# Altium integrated library Renesas Microcontroller H8.IntLib: 489 symbols (part 25 of 25)
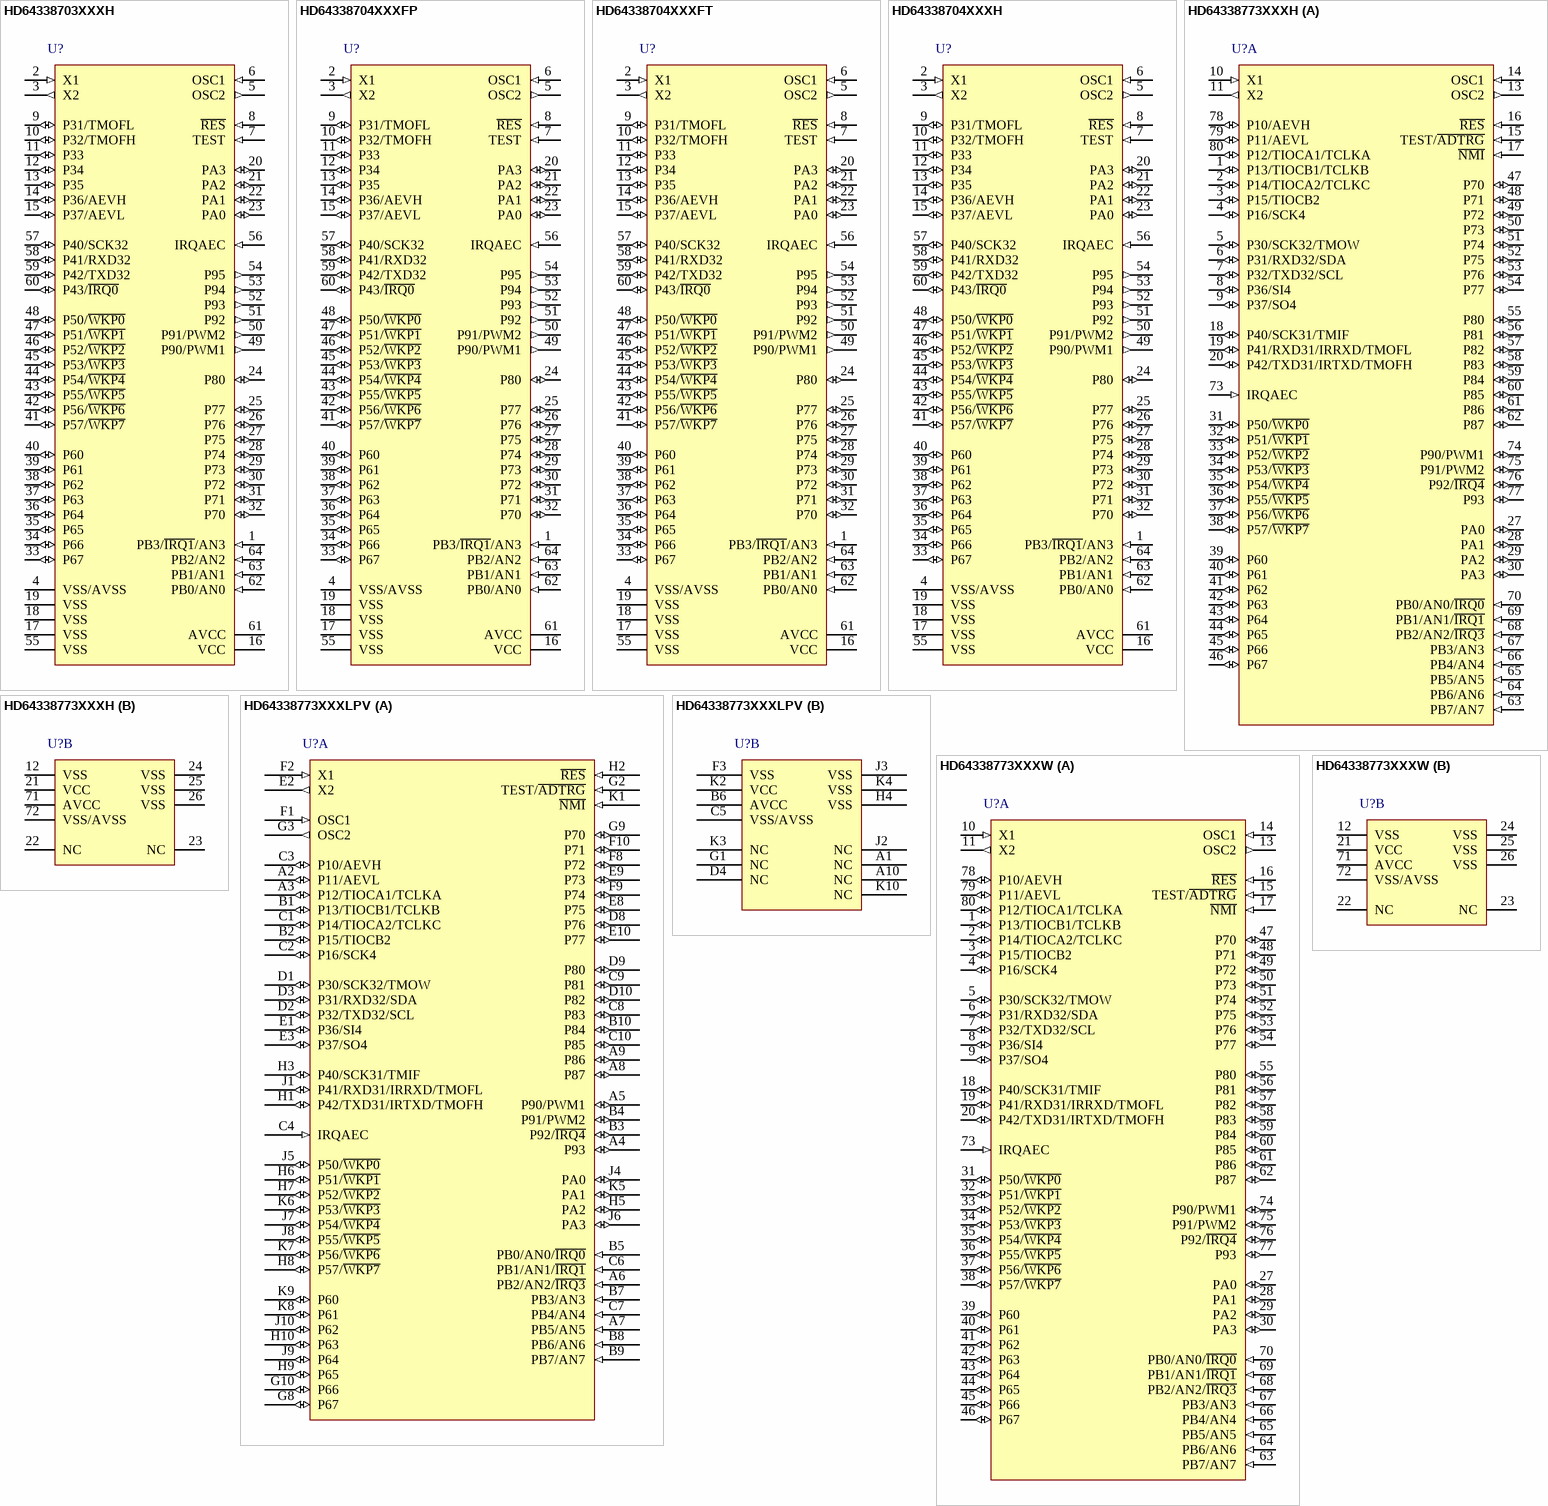
[diagram p112: symbols HD64338703XXXH to HD64338773XXXW]

## HD64338704XXXH
designator U?
H8 Family 8-bit MCU, H8/300H Super Low Power, 32K ROM, 1K RAM, 2MHz, 1.8 to 3.6V, 64-Pin QFP; Published: 28-Aug-2009; DatasheetVersion: Rev.1.00, Dec-2007; PackageVersion: Sep-2005; PackageReference: PRQP0064GB-A; Publisher: Altium Limited; PackageDescription: 64-Pin Plastic Quad Flat Pack, 14 x 14 x 2.7 mm Body, 0.8 mm Pitch; Code_JEITA: P-QFP64-14x14-0.80; ComponentLink1Description: Manufacturer Link; ComponentLink1URL: http://sg.renesas.com/fmwk.jsp?cnt=h8_family_landing.jsp&fp=/products/mpumcu/h8_family/; ComponentLink2Description: Datasheet; ComponentLink2URL: http://documentation.renesas.com/eng/products/mpumcu/rej09b0430_h838704hm.pdf; ComponentLink3Description: Packaging Specification; ComponentLink3URL: http://sg.renesas.com/media/products/common_info/package/pdf/ic/code/prqp0064gb_a.pdf
footprint PRQP0064GB-A_N (QFP, 64-Leads, Body 14x14mm, Pitch 0.8mm, IPC Medium Density)
footprint PRQP0064GB-A_L (QFP, 64-Leads, Body 14x14mm, Pitch 0.8mm, IPC High Density)
footprint PRQP0064GB-A_M (QFP, 64-Leads, Body 14x14mm, Pitch 0.8mm, IPC Low Density)
pins: 1 PB3/~{IRQ1}/AN3 (in), 2 X1 (in), 3 X2 (out), 4 VSS/AVSS (power), 5 OSC2 (out), 6 OSC1 (in), 7 TEST (in), 8 ~{RES} (in), 9 P31/TMOFL (io), 10 P32/TMOFH (io), 11 P33 (io), 12 P34 (io), 13 P35 (io), 14 P36/AEVH (io), 15 P37/AEVL (io), 16 VCC (power), 17 VSS (power), 18 VSS (power), 19 VSS (power), 20 PA3 (io), 21 PA2 (io), 22 PA1 (io), 23 PA0 (io), 24 P80 (io), 25 P77 (io), 26 P76 (io), 27 P75 (io), 28 P74 (io), 29 P73 (io), 30 P72 (io), 31 P71 (io), 32 P70 (io), 33 P67 (io), 34 P66 (io), 35 P65 (io), 36 P64 (io), 37 P63 (io), 38 P62 (io), 39 P61 (io), 40 P60 (io), 41 P57/~{WKP7} (io), 42 P56/~{WKP6} (io), 43 P55/~{WKP5} (io), 44 P54/~{WKP4} (io), 45 P53/~{WKP3} (io), 46 P52/~{WKP2} (io), 47 P51/~{WKP1} (io), 48 P50/~{WKP0} (io), 49 P90/PWM1 (out), 50 P91/PWM2 (out), 51 P92 (out), 52 P93 (out), 53 P94 (out), 54 P95 (out), 55 VSS (power), 56 IRQAEC (in), 57 P40/SCK32 (io), 58 P41/RXD32 (io), 59 P42/TXD32 (io), 60 P43/~{IRQ0} (io), 61 AVCC (power), 62 PB0/AN0 (in), 63 PB1/AN1 (in), 64 PB2/AN2 (in)

## HD64338773XXXH
designator U?
H8 Family 32/16-bit CISC, H8/300H Super Low Power, 24K ROM, 1K RAM, 4.2MHz, 1.8 to 3.6V, 80-Pin QFP; Published: 28-Aug-2009; DatasheetVersion: Rev.1.00, Dec-2006; PackageVersion: Sep-2005; PackageReference: PRQP0080JB-A; Publisher: Altium Limited; PackageDescription: 80-Pin Plastic Quad Flat Pack, 14 x 14 x 2.7 mm Body, 0.65 mm Pitch; Code_JEITA: P-QFP80-14x14-0.65; Code_IPC: QFP65P1720X1720-80; ComponentLink1Description: Manufacturer Link; ComponentLink1URL: http://sg.renesas.com/fmwk.jsp?cnt=h8_family_landing.jsp&fp=/products/mpumcu/h8_family/; ComponentLink2Description: Datasheet; ComponentLink2URL: http://documentation.renesas.com/eng/products/mpumcu/rej09b0348_h838776hm.pdf; ComponentLink3Description: Packaging Specification; ComponentLink3URL: http://sg.renesas.com/media/products/common_info/package/pdf/ic/code/prqp0080jb_a.pdf
footprint PRQP0080JB-A_N (QFP, 80-Leads, Body 14x14mm, Pitch 0.65mm, IPC Medium Density)
footprint PRQP0080JB-A_L (QFP, 80-Leads, Body 14x14mm, Pitch 0.65mm, IPC High Density)
footprint PRQP0080JB-A_M (QFP, 80-Leads, Body 14x14mm, Pitch 0.65mm, IPC Low Density)
part A pins: 1 P13/TIOCB1/TCLKB (io), 2 P14/TIOCA2/TCLKC (io), 3 P15/TIOCB2 (io), 4 P16/SCK4 (io), 5 P30/SCK32/TMOW (io), 6 P31/RXD32/SDA (io), 7 P32/TXD32/SCL (io), 8 P36/SI4 (io), 9 P37/SO4 (io), 10 X1 (in), 11 X2 (out), 13 OSC2 (out), 14 OSC1 (in), 15 TEST/~{ADTRG} (in), 16 ~{RES} (in), 17 ~{NMI} (in), 18 P40/SCK31/TMIF (io), 19 P41/RXD31/IRRXD/TMOFL (io), 20 P42/TXD31/IRTXD/TMOFH (io), 27 PA0 (io), 28 PA1 (io), 29 PA2 (io), 30 PA3 (io), 31 P50/~{WKP0} (io), 32 P51/~{WKP1} (io), 33 P52/~{WKP2} (io), 34 P53/~{WKP3} (io), 35 P54/~{WKP4} (io), 36 P55/~{WKP5} (io), 37 P56/~{WKP6} (io), 38 P57/~{WKP7} (io), 39 P60 (io), 40 P61 (io), 41 P62 (io), 42 P63 (io), 43 P64 (io), 44 P65 (io), 45 P66 (io), 46 P67 (io), 47 P70 (io), 48 P71 (io), 49 P72 (io), 50 P73 (io), 51 P74 (io), 52 P75 (io), 53 P76 (io), 54 P77 (io), 55 P80 (io), 56 P81 (io), 57 P82 (io), 58 P83 (io), 59 P84 (io), 60 P85 (io), 61 P86 (io), 62 P87 (io), 63 PB7/AN7 (in), 64 PB6/AN6 (in), 65 PB5/AN5 (in), 66 PB4/AN4 (in), 67 PB3/AN3 (in), 68 PB2/AN2/~{IRQ3} (in), 69 PB1/AN1/~{IRQ1} (in), 70 PB0/AN0/~{IRQ0} (in), 73 IRQAEC (in), 74 P90/PWM1 (io), 75 P91/PWM2 (io), 76 P92/~{IRQ4} (io), 77 P93 (io), 78 P10/AEVH (io), 79 P11/AEVL (io), 80 P12/TIOCA1/TCLKA (io)
part B pins: 12 VSS (power), 21 VCC (power), 22 NC (power), 23 NC (power), 24 VSS (power), 25 VSS (power), 26 VSS (power), 71 AVCC (power), 72 VSS/AVSS (power)

## HD64338773XXXLPV
designator U?
H8 Family 32/16-bit CISC, H8/300H Super Low Power, 24K ROM, 1K RAM, 4.2MHz, 1.8 to 3.6V, 85-Ball BGA; Published: 28-Aug-2009; DatasheetVersion: Rev.1.00, Dec-2006; PackageVersion: Sep-2005; PackageReference: PTLG0085JA-A; Publisher: Altium Limited; PackageDescription: 85-Ball Plastic Thin Fine-Pitch BGA, 7 x 7 mm Body, 0.65 mm Pitch; Code_JEITA: P-TFLGA85-7x7-0.65; ComponentLink1Description: Manufacturer Link; ComponentLink1URL: http://sg.renesas.com/fmwk.jsp?cnt=h8_family_landing.jsp&fp=/products/mpumcu/h8_family/; ComponentLink2Description: Datasheet; ComponentLink2URL: http://documentation.renesas.com/eng/products/mpumcu/rej09b0348_h838776hm.pdf; ComponentLink3Description: Packaging Specification; ComponentLink3URL: http://sg.renesas.com/media/products/common_info/package/pdf/ic/code/ptlg0085ja_a.pdf
footprint PTLG0085JA-A (BGA, 85-Leads, Body 7x7mm, Pitch 0.65mm)
part A pins: A2 P11/AEVL (io), A3 P12/TIOCA1/TCLKA (io), A4 P93 (io), A5 P90/PWM1 (io), A6 PB2/AN2/~{IRQ3} (in), A7 PB5/AN5 (in), A8 P87 (io), A9 P86 (io), B1 P13/TIOCB1/TCLKB (io), B2 P15/TIOCB2 (io), B3 P92/~{IRQ4} (io), B4 P91/PWM2 (io), B5 PB0/AN0/~{IRQ0} (in), B7 PB3/AN3 (in), B8 PB6/AN6 (in), B9 PB7/AN7 (in), B10 P84 (io), C1 P14/TIOCA2/TCLKC (io), C2 P16/SCK4 (io), C3 P10/AEVH (io), C4 IRQAEC (in), C6 PB1/AN1/~{IRQ1} (in), C7 PB4/AN4 (in), C8 P83 (io), C9 P81 (io), C10 P85 (io), D1 P30/SCK32/TMOW (io), D2 P32/TXD32/SCL (io), D3 P31/RXD32/SDA (io), D8 P76 (io), D9 P80 (io), D10 P82 (io), E1 P36/SI4 (io), E2 X2 (out), E3 P37/SO4 (io), E8 P75 (io), E9 P73 (io), E10 P77 (io), F1 OSC1 (in), F2 X1 (in), F8 P72 (io), F9 P74 (io), F10 P71 (io), G2 TEST/~{ADTRG} (in), G3 OSC2 (out), G8 P67 (io), G9 P70 (io), G10 P66 (io), H1 P42/TXD31/IRTXD/TMOFH (io), H2 ~{RES} (in), H3 P40/SCK31/TMIF (io), H5 PA2 (io), H6 P51/~{WKP1} (io), H7 P52/~{WKP2} (io), H8 P57/~{WKP7} (io), H9 P65 (io), H10 P63 (io), J1 P41/RXD31/IRRXD/TMOFL (io), J4 PA0 (io), J5 P50/~{WKP0} (io), J6 PA3 (io), J7 P54/~{WKP4} (io), J8 P55/~{WKP5} (io), J9 P64 (io), J10 P62 (io), K1 ~{NMI} (in), K5 PA1 (io), K6 P53/~{WKP3} (io), K7 P56/~{WKP6} (io), K8 P61 (io), K9 P60 (io)
part B pins: A1 NC, A10 NC, B6 AVCC (power), C5 VSS/AVSS (power), D4 NC, F3 VSS (power), G1 NC, H4 VSS (power), J2 NC (power), J3 VSS (power), K2 VCC (power), K3 NC (power), K4 VSS (power), K10 NC

## HD64338773XXXW
designator U?
H8 Family 32/16-bit CISC, H8/300H Super Low Power, 24K ROM, 1K RAM, 4.2MHz, 1.8 to 3.6V, 80-Pin QFP; Published: 28-Aug-2009; DatasheetVersion: Rev.1.00, Dec-2006; PackageVersion: Sep-2005; PackageReference: PTQP0080KC-A; Publisher: Altium Limited; PackageDescription: 80-Pin Plastic Thin Quad Flat Pack, 12 x 12 x 1.0 mm Body, 0.5 mm Pitch; Code_JEITA: P-TQFP80-12x12-0.50; ComponentLink1Description: Manufacturer Link; ComponentLink1URL: http://sg.renesas.com/fmwk.jsp?cnt=h8_family_landing.jsp&fp=/products/mpumcu/h8_family/; ComponentLink2Description: Datasheet; ComponentLink2URL: http://documentation.renesas.com/eng/products/mpumcu/rej09b0348_h838776hm.pdf; ComponentLink3Description: Packaging Specification; ComponentLink3URL: http://sg.renesas.com/media/products/common_info/package/pdf/ic/code/ptqp0080kc_a.pdf
footprint PTQP0080KC-A_N (Thin QFP, 80-Leads, Body 12x12mm, Pitch 0.5mm, IPC Medium Density)
footprint PTQP0080KC-A_L (Thin QFP, 80-Leads, Body 12x12mm, Pitch 0.5mm, IPC High Density)
footprint PTQP0080KC-A_M (Thin QFP, 80-Leads, Body 12x12mm, Pitch 0.5mm, IPC Low Density)
part A pins: 1 P13/TIOCB1/TCLKB (io), 2 P14/TIOCA2/TCLKC (io), 3 P15/TIOCB2 (io), 4 P16/SCK4 (io), 5 P30/SCK32/TMOW (io), 6 P31/RXD32/SDA (io), 7 P32/TXD32/SCL (io), 8 P36/SI4 (io), 9 P37/SO4 (io), 10 X1 (in), 11 X2 (out), 13 OSC2 (out), 14 OSC1 (in), 15 TEST/~{ADTRG} (in), 16 ~{RES} (in), 17 ~{NMI} (in), 18 P40/SCK31/TMIF (io), 19 P41/RXD31/IRRXD/TMOFL (io), 20 P42/TXD31/IRTXD/TMOFH (io), 27 PA0 (io), 28 PA1 (io), 29 PA2 (io), 30 PA3 (io), 31 P50/~{WKP0} (io), 32 P51/~{WKP1} (io), 33 P52/~{WKP2} (io), 34 P53/~{WKP3} (io), 35 P54/~{WKP4} (io), 36 P55/~{WKP5} (io), 37 P56/~{WKP6} (io), 38 P57/~{WKP7} (io), 39 P60 (io), 40 P61 (io), 41 P62 (io), 42 P63 (io), 43 P64 (io), 44 P65 (io), 45 P66 (io), 46 P67 (io), 47 P70 (io), 48 P71 (io), 49 P72 (io), 50 P73 (io), 51 P74 (io), 52 P75 (io), 53 P76 (io), 54 P77 (io), 55 P80 (io), 56 P81 (io), 57 P82 (io), 58 P83 (io), 59 P84 (io), 60 P85 (io), 61 P86 (io), 62 P87 (io), 63 PB7/AN7 (in), 64 PB6/AN6 (in), 65 PB5/AN5 (in), 66 PB4/AN4 (in), 67 PB3/AN3 (in), 68 PB2/AN2/~{IRQ3} (in), 69 PB1/AN1/~{IRQ1} (in), 70 PB0/AN0/~{IRQ0} (in), 73 IRQAEC (in), 74 P90/PWM1 (io), 75 P91/PWM2 (io), 76 P92/~{IRQ4} (io), 77 P93 (io), 78 P10/AEVH (io), 79 P11/AEVL (io), 80 P12/TIOCA1/TCLKA (io)
part B pins: 12 VSS (power), 21 VCC (power), 22 NC (power), 23 NC (power), 24 VSS (power), 25 VSS (power), 26 VSS (power), 71 AVCC (power), 72 VSS/AVSS (power)

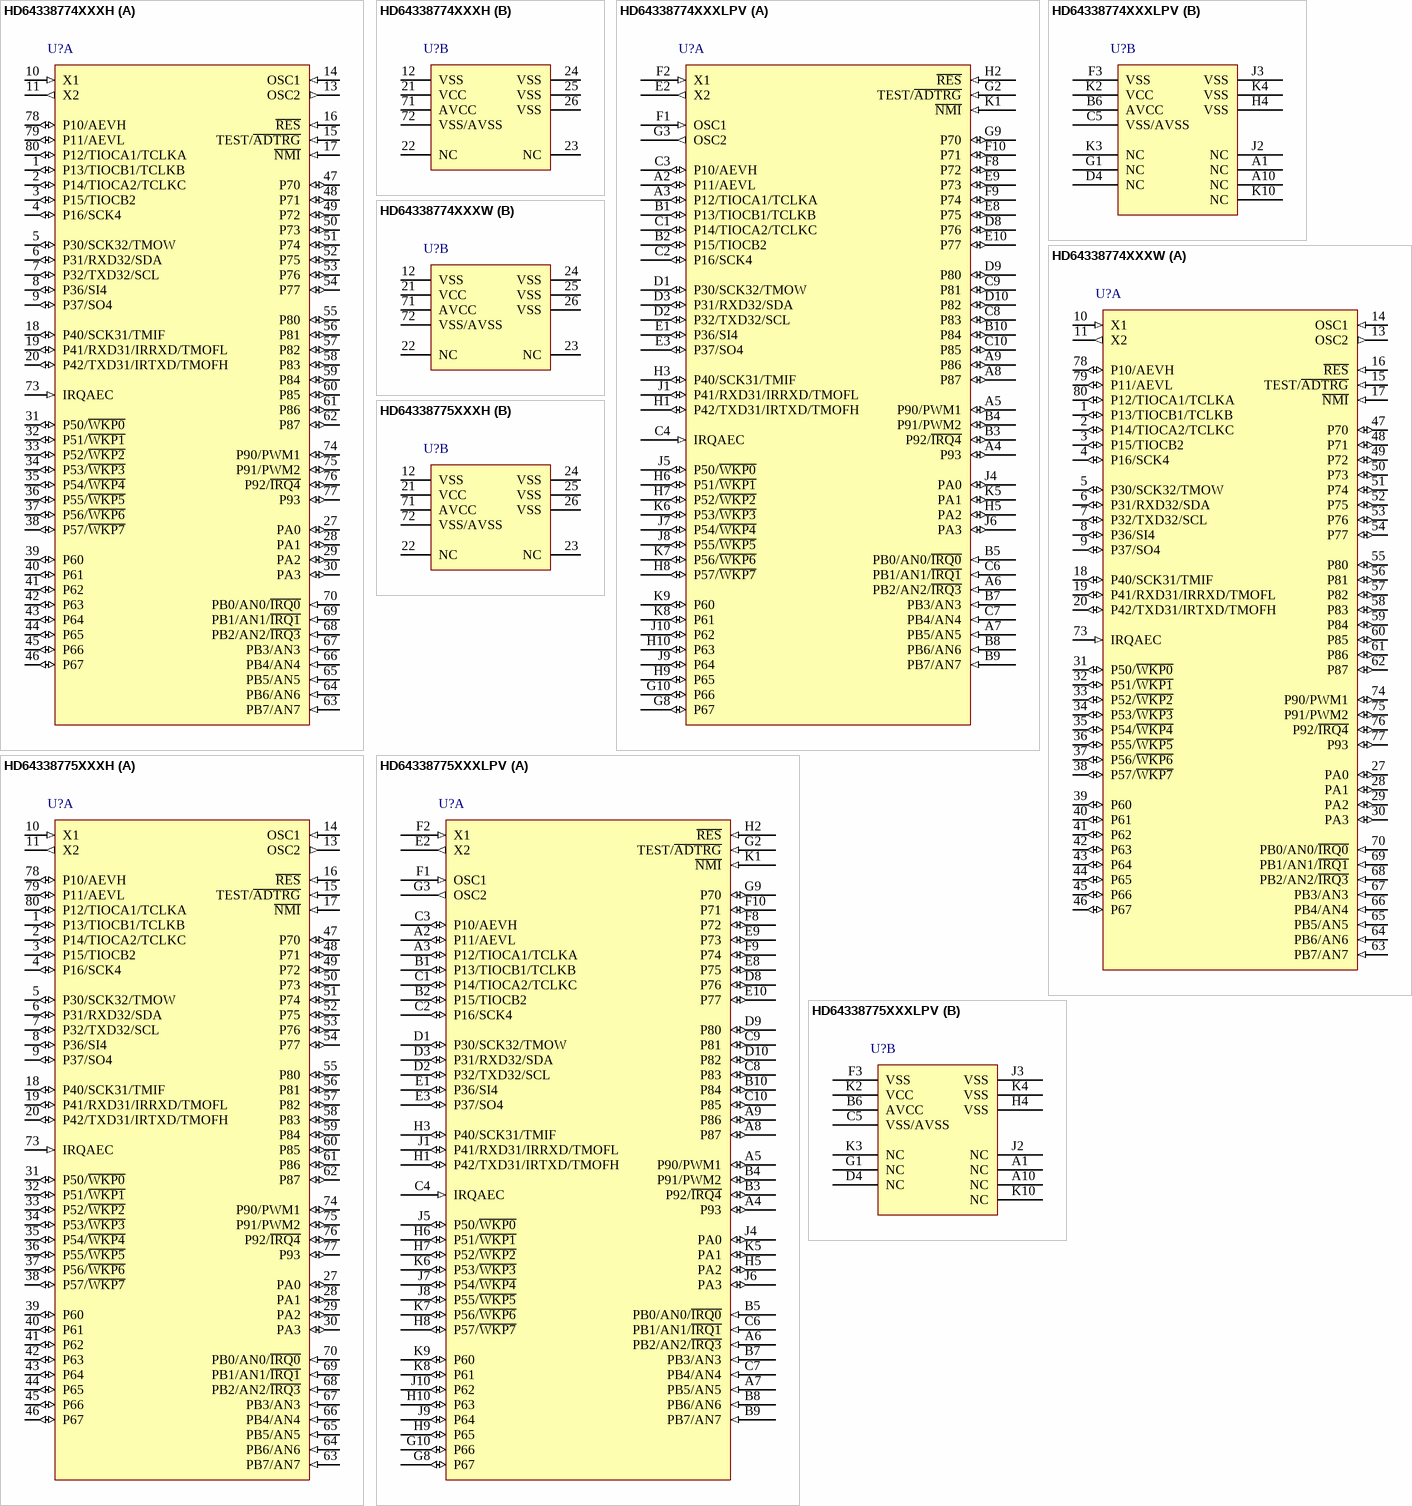
[diagram p86: symbols HD64338774XXXH to HD64338775XXXLPV]

## HD64338774XXXH
designator U?
H8 Family 32/16-bit CISC, H8/300H Super Low Power, 32K ROM, 1K RAM, 4.2MHz, 1.8 to 3.6V, 80-Pin QFP; Published: 28-Aug-2009; DatasheetVersion: Rev.1.00, Dec-2006; PackageVersion: Sep-2005; PackageReference: PRQP0080JB-A; Publisher: Altium Limited; PackageDescription: 80-Pin Plastic Quad Flat Pack, 14 x 14 x 2.7 mm Body, 0.65 mm Pitch; Code_JEITA: P-QFP80-14x14-0.65; Code_IPC: QFP65P1720X1720-80; ComponentLink1Description: Manufacturer Link; ComponentLink1URL: http://sg.renesas.com/fmwk.jsp?cnt=h8_family_landing.jsp&fp=/products/mpumcu/h8_family/; ComponentLink2Description: Datasheet; ComponentLink2URL: http://documentation.renesas.com/eng/products/mpumcu/rej09b0348_h838776hm.pdf; ComponentLink3Description: Packaging Specification; ComponentLink3URL: http://sg.renesas.com/media/products/common_info/package/pdf/ic/code/prqp0080jb_a.pdf
footprint PRQP0080JB-A_N (QFP, 80-Leads, Body 14x14mm, Pitch 0.65mm, IPC Medium Density)
footprint PRQP0080JB-A_L (QFP, 80-Leads, Body 14x14mm, Pitch 0.65mm, IPC High Density)
footprint PRQP0080JB-A_M (QFP, 80-Leads, Body 14x14mm, Pitch 0.65mm, IPC Low Density)
part A pins: 1 P13/TIOCB1/TCLKB (io), 2 P14/TIOCA2/TCLKC (io), 3 P15/TIOCB2 (io), 4 P16/SCK4 (io), 5 P30/SCK32/TMOW (io), 6 P31/RXD32/SDA (io), 7 P32/TXD32/SCL (io), 8 P36/SI4 (io), 9 P37/SO4 (io), 10 X1 (in), 11 X2 (out), 13 OSC2 (out), 14 OSC1 (in), 15 TEST/~{ADTRG} (in), 16 ~{RES} (in), 17 ~{NMI} (in), 18 P40/SCK31/TMIF (io), 19 P41/RXD31/IRRXD/TMOFL (io), 20 P42/TXD31/IRTXD/TMOFH (io), 27 PA0 (io), 28 PA1 (io), 29 PA2 (io), 30 PA3 (io), 31 P50/~{WKP0} (io), 32 P51/~{WKP1} (io), 33 P52/~{WKP2} (io), 34 P53/~{WKP3} (io), 35 P54/~{WKP4} (io), 36 P55/~{WKP5} (io), 37 P56/~{WKP6} (io), 38 P57/~{WKP7} (io), 39 P60 (io), 40 P61 (io), 41 P62 (io), 42 P63 (io), 43 P64 (io), 44 P65 (io), 45 P66 (io), 46 P67 (io), 47 P70 (io), 48 P71 (io), 49 P72 (io), 50 P73 (io), 51 P74 (io), 52 P75 (io), 53 P76 (io), 54 P77 (io), 55 P80 (io), 56 P81 (io), 57 P82 (io), 58 P83 (io), 59 P84 (io), 60 P85 (io), 61 P86 (io), 62 P87 (io), 63 PB7/AN7 (in), 64 PB6/AN6 (in), 65 PB5/AN5 (in), 66 PB4/AN4 (in), 67 PB3/AN3 (in), 68 PB2/AN2/~{IRQ3} (in), 69 PB1/AN1/~{IRQ1} (in), 70 PB0/AN0/~{IRQ0} (in), 73 IRQAEC (in), 74 P90/PWM1 (io), 75 P91/PWM2 (io), 76 P92/~{IRQ4} (io), 77 P93 (io), 78 P10/AEVH (io), 79 P11/AEVL (io), 80 P12/TIOCA1/TCLKA (io)
part B pins: 12 VSS (power), 21 VCC (power), 22 NC (power), 23 NC (power), 24 VSS (power), 25 VSS (power), 26 VSS (power), 71 AVCC (power), 72 VSS/AVSS (power)

## HD64338774XXXLPV
designator U?
H8 Family 32/16-bit CISC, H8/300H Super Low Power, 32K ROM, 1K RAM, 4.2MHz, 1.8 to 3.6V, 85-Ball BGA; Published: 28-Aug-2009; DatasheetVersion: Rev.1.00, Dec-2006; PackageVersion: Sep-2005; PackageReference: PTLG0085JA-A; Publisher: Altium Limited; PackageDescription: 85-Ball Plastic Thin Fine-Pitch BGA, 7 x 7 mm Body, 0.65 mm Pitch; Code_JEITA: P-TFLGA85-7x7-0.65; ComponentLink1Description: Manufacturer Link; ComponentLink1URL: http://sg.renesas.com/fmwk.jsp?cnt=h8_family_landing.jsp&fp=/products/mpumcu/h8_family/; ComponentLink2Description: Datasheet; ComponentLink2URL: http://documentation.renesas.com/eng/products/mpumcu/rej09b0348_h838776hm.pdf; ComponentLink3Description: Packaging Specification; ComponentLink3URL: http://sg.renesas.com/media/products/common_info/package/pdf/ic/code/ptlg0085ja_a.pdf
footprint PTLG0085JA-A (BGA, 85-Leads, Body 7x7mm, Pitch 0.65mm)
part A pins: A2 P11/AEVL (io), A3 P12/TIOCA1/TCLKA (io), A4 P93 (io), A5 P90/PWM1 (io), A6 PB2/AN2/~{IRQ3} (in), A7 PB5/AN5 (in), A8 P87 (io), A9 P86 (io), B1 P13/TIOCB1/TCLKB (io), B2 P15/TIOCB2 (io), B3 P92/~{IRQ4} (io), B4 P91/PWM2 (io), B5 PB0/AN0/~{IRQ0} (in), B7 PB3/AN3 (in), B8 PB6/AN6 (in), B9 PB7/AN7 (in), B10 P84 (io), C1 P14/TIOCA2/TCLKC (io), C2 P16/SCK4 (io), C3 P10/AEVH (io), C4 IRQAEC (in), C6 PB1/AN1/~{IRQ1} (in), C7 PB4/AN4 (in), C8 P83 (io), C9 P81 (io), C10 P85 (io), D1 P30/SCK32/TMOW (io), D2 P32/TXD32/SCL (io), D3 P31/RXD32/SDA (io), D8 P76 (io), D9 P80 (io), D10 P82 (io), E1 P36/SI4 (io), E2 X2 (out), E3 P37/SO4 (io), E8 P75 (io), E9 P73 (io), E10 P77 (io), F1 OSC1 (in), F2 X1 (in), F8 P72 (io), F9 P74 (io), F10 P71 (io), G2 TEST/~{ADTRG} (in), G3 OSC2 (out), G8 P67 (io), G9 P70 (io), G10 P66 (io), H1 P42/TXD31/IRTXD/TMOFH (io), H2 ~{RES} (in), H3 P40/SCK31/TMIF (io), H5 PA2 (io), H6 P51/~{WKP1} (io), H7 P52/~{WKP2} (io), H8 P57/~{WKP7} (io), H9 P65 (io), H10 P63 (io), J1 P41/RXD31/IRRXD/TMOFL (io), J4 PA0 (io), J5 P50/~{WKP0} (io), J6 PA3 (io), J7 P54/~{WKP4} (io), J8 P55/~{WKP5} (io), J9 P64 (io), J10 P62 (io), K1 ~{NMI} (in), K5 PA1 (io), K6 P53/~{WKP3} (io), K7 P56/~{WKP6} (io), K8 P61 (io), K9 P60 (io)
part B pins: A1 NC, A10 NC, B6 AVCC (power), C5 VSS/AVSS (power), D4 NC, F3 VSS (power), G1 NC, H4 VSS (power), J2 NC (power), J3 VSS (power), K2 VCC (power), K3 NC (power), K4 VSS (power), K10 NC

## HD64338774XXXW
designator U?
H8 Family 32/16-bit CISC, H8/300H Super Low Power, 32K ROM, 1K RAM, 4.2MHz, 1.8 to 3.6V, 80-Pin QFP; Published: 28-Aug-2009; DatasheetVersion: Rev.1.00, Dec-2006; PackageVersion: Sep-2005; PackageReference: PTQP0080KC-A; Publisher: Altium Limited; PackageDescription: 80-Pin Plastic Thin Quad Flat Pack, 12 x 12 x 1.0 mm Body, 0.5 mm Pitch; Code_JEITA: P-TQFP80-12x12-0.50; ComponentLink1Description: Manufacturer Link; ComponentLink1URL: http://sg.renesas.com/fmwk.jsp?cnt=h8_family_landing.jsp&fp=/products/mpumcu/h8_family/; ComponentLink2Description: Datasheet; ComponentLink2URL: http://documentation.renesas.com/eng/products/mpumcu/rej09b0348_h838776hm.pdf; ComponentLink3Description: Packaging Specification; ComponentLink3URL: http://sg.renesas.com/media/products/common_info/package/pdf/ic/code/ptqp0080kc_a.pdf
footprint PTQP0080KC-A_N (Thin QFP, 80-Leads, Body 12x12mm, Pitch 0.5mm, IPC Medium Density)
footprint PTQP0080KC-A_L (Thin QFP, 80-Leads, Body 12x12mm, Pitch 0.5mm, IPC High Density)
footprint PTQP0080KC-A_M (Thin QFP, 80-Leads, Body 12x12mm, Pitch 0.5mm, IPC Low Density)
part A pins: 1 P13/TIOCB1/TCLKB (io), 2 P14/TIOCA2/TCLKC (io), 3 P15/TIOCB2 (io), 4 P16/SCK4 (io), 5 P30/SCK32/TMOW (io), 6 P31/RXD32/SDA (io), 7 P32/TXD32/SCL (io), 8 P36/SI4 (io), 9 P37/SO4 (io), 10 X1 (in), 11 X2 (out), 13 OSC2 (out), 14 OSC1 (in), 15 TEST/~{ADTRG} (in), 16 ~{RES} (in), 17 ~{NMI} (in), 18 P40/SCK31/TMIF (io), 19 P41/RXD31/IRRXD/TMOFL (io), 20 P42/TXD31/IRTXD/TMOFH (io), 27 PA0 (io), 28 PA1 (io), 29 PA2 (io), 30 PA3 (io), 31 P50/~{WKP0} (io), 32 P51/~{WKP1} (io), 33 P52/~{WKP2} (io), 34 P53/~{WKP3} (io), 35 P54/~{WKP4} (io), 36 P55/~{WKP5} (io), 37 P56/~{WKP6} (io), 38 P57/~{WKP7} (io), 39 P60 (io), 40 P61 (io), 41 P62 (io), 42 P63 (io), 43 P64 (io), 44 P65 (io), 45 P66 (io), 46 P67 (io), 47 P70 (io), 48 P71 (io), 49 P72 (io), 50 P73 (io), 51 P74 (io), 52 P75 (io), 53 P76 (io), 54 P77 (io), 55 P80 (io), 56 P81 (io), 57 P82 (io), 58 P83 (io), 59 P84 (io), 60 P85 (io), 61 P86 (io), 62 P87 (io), 63 PB7/AN7 (in), 64 PB6/AN6 (in), 65 PB5/AN5 (in), 66 PB4/AN4 (in), 67 PB3/AN3 (in), 68 PB2/AN2/~{IRQ3} (in), 69 PB1/AN1/~{IRQ1} (in), 70 PB0/AN0/~{IRQ0} (in), 73 IRQAEC (in), 74 P90/PWM1 (io), 75 P91/PWM2 (io), 76 P92/~{IRQ4} (io), 77 P93 (io), 78 P10/AEVH (io), 79 P11/AEVL (io), 80 P12/TIOCA1/TCLKA (io)
part B pins: 12 VSS (power), 21 VCC (power), 22 NC (power), 23 NC (power), 24 VSS (power), 25 VSS (power), 26 VSS (power), 71 AVCC (power), 72 VSS/AVSS (power)

## HD64338775XXXH
designator U?
H8 Family 32/16-bit CISC, H8/300H Super Low Power, 40K ROM, 2K RAM, 4.2MHz, 1.8 to 3.6V, 80-Pin QFP; Published: 28-Aug-2009; DatasheetVersion: Rev.1.00, Dec-2006; PackageVersion: Sep-2005; PackageReference: PRQP0080JB-A; Publisher: Altium Limited; PackageDescription: 80-Pin Plastic Quad Flat Pack, 14 x 14 x 2.7 mm Body, 0.65 mm Pitch; Code_JEITA: P-QFP80-14x14-0.65; Code_IPC: QFP65P1720X1720-80; ComponentLink1Description: Manufacturer Link; ComponentLink1URL: http://sg.renesas.com/fmwk.jsp?cnt=h8_family_landing.jsp&fp=/products/mpumcu/h8_family/; ComponentLink2Description: Datasheet; ComponentLink2URL: http://documentation.renesas.com/eng/products/mpumcu/rej09b0348_h838776hm.pdf; ComponentLink3Description: Packaging Specification; ComponentLink3URL: http://sg.renesas.com/media/products/common_info/package/pdf/ic/code/prqp0080jb_a.pdf
footprint PRQP0080JB-A_N (QFP, 80-Leads, Body 14x14mm, Pitch 0.65mm, IPC Medium Density)
footprint PRQP0080JB-A_L (QFP, 80-Leads, Body 14x14mm, Pitch 0.65mm, IPC High Density)
footprint PRQP0080JB-A_M (QFP, 80-Leads, Body 14x14mm, Pitch 0.65mm, IPC Low Density)
part A pins: 1 P13/TIOCB1/TCLKB (io), 2 P14/TIOCA2/TCLKC (io), 3 P15/TIOCB2 (io), 4 P16/SCK4 (io), 5 P30/SCK32/TMOW (io), 6 P31/RXD32/SDA (io), 7 P32/TXD32/SCL (io), 8 P36/SI4 (io), 9 P37/SO4 (io), 10 X1 (in), 11 X2 (out), 13 OSC2 (out), 14 OSC1 (in), 15 TEST/~{ADTRG} (in), 16 ~{RES} (in), 17 ~{NMI} (in), 18 P40/SCK31/TMIF (io), 19 P41/RXD31/IRRXD/TMOFL (io), 20 P42/TXD31/IRTXD/TMOFH (io), 27 PA0 (io), 28 PA1 (io), 29 PA2 (io), 30 PA3 (io), 31 P50/~{WKP0} (io), 32 P51/~{WKP1} (io), 33 P52/~{WKP2} (io), 34 P53/~{WKP3} (io), 35 P54/~{WKP4} (io), 36 P55/~{WKP5} (io), 37 P56/~{WKP6} (io), 38 P57/~{WKP7} (io), 39 P60 (io), 40 P61 (io), 41 P62 (io), 42 P63 (io), 43 P64 (io), 44 P65 (io), 45 P66 (io), 46 P67 (io), 47 P70 (io), 48 P71 (io), 49 P72 (io), 50 P73 (io), 51 P74 (io), 52 P75 (io), 53 P76 (io), 54 P77 (io), 55 P80 (io), 56 P81 (io), 57 P82 (io), 58 P83 (io), 59 P84 (io), 60 P85 (io), 61 P86 (io), 62 P87 (io), 63 PB7/AN7 (in), 64 PB6/AN6 (in), 65 PB5/AN5 (in), 66 PB4/AN4 (in), 67 PB3/AN3 (in), 68 PB2/AN2/~{IRQ3} (in), 69 PB1/AN1/~{IRQ1} (in), 70 PB0/AN0/~{IRQ0} (in), 73 IRQAEC (in), 74 P90/PWM1 (io), 75 P91/PWM2 (io), 76 P92/~{IRQ4} (io), 77 P93 (io), 78 P10/AEVH (io), 79 P11/AEVL (io), 80 P12/TIOCA1/TCLKA (io)
part B pins: 12 VSS (power), 21 VCC (power), 22 NC (power), 23 NC (power), 24 VSS (power), 25 VSS (power), 26 VSS (power), 71 AVCC (power), 72 VSS/AVSS (power)

## HD64338775XXXLPV
designator U?
H8 Family 32/16-bit CISC, H8/300H Super Low Power, 40K ROM, 2K RAM, 4.2MHz, 1.8 to 3.6V, 85-Ball BGA; Published: 28-Aug-2009; DatasheetVersion: Rev.1.00, Dec-2006; PackageVersion: Sep-2005; PackageReference: PTLG0085JA-A; Publisher: Altium Limited; PackageDescription: 85-Ball Plastic Thin Fine-Pitch BGA, 7 x 7 mm Body, 0.65 mm Pitch; Code_JEITA: P-TFLGA85-7x7-0.65; ComponentLink1Description: Manufacturer Link; ComponentLink1URL: http://sg.renesas.com/fmwk.jsp?cnt=h8_family_landing.jsp&fp=/products/mpumcu/h8_family/; ComponentLink2Description: Datasheet; ComponentLink2URL: http://documentation.renesas.com/eng/products/mpumcu/rej09b0348_h838776hm.pdf; ComponentLink3Description: Packaging Specification; ComponentLink3URL: http://sg.renesas.com/media/products/common_info/package/pdf/ic/code/ptlg0085ja_a.pdf
footprint PTLG0085JA-A (BGA, 85-Leads, Body 7x7mm, Pitch 0.65mm)
part A pins: A2 P11/AEVL (io), A3 P12/TIOCA1/TCLKA (io), A4 P93 (io), A5 P90/PWM1 (io), A6 PB2/AN2/~{IRQ3} (in), A7 PB5/AN5 (in), A8 P87 (io), A9 P86 (io), B1 P13/TIOCB1/TCLKB (io), B2 P15/TIOCB2 (io), B3 P92/~{IRQ4} (io), B4 P91/PWM2 (io), B5 PB0/AN0/~{IRQ0} (in), B7 PB3/AN3 (in), B8 PB6/AN6 (in), B9 PB7/AN7 (in), B10 P84 (io), C1 P14/TIOCA2/TCLKC (io), C2 P16/SCK4 (io), C3 P10/AEVH (io), C4 IRQAEC (in), C6 PB1/AN1/~{IRQ1} (in), C7 PB4/AN4 (in), C8 P83 (io), C9 P81 (io), C10 P85 (io), D1 P30/SCK32/TMOW (io), D2 P32/TXD32/SCL (io), D3 P31/RXD32/SDA (io), D8 P76 (io), D9 P80 (io), D10 P82 (io), E1 P36/SI4 (io), E2 X2 (out), E3 P37/SO4 (io), E8 P75 (io), E9 P73 (io), E10 P77 (io), F1 OSC1 (in), F2 X1 (in), F8 P72 (io), F9 P74 (io), F10 P71 (io), G2 TEST/~{ADTRG} (in), G3 OSC2 (out), G8 P67 (io), G9 P70 (io), G10 P66 (io), H1 P42/TXD31/IRTXD/TMOFH (io), H2 ~{RES} (in), H3 P40/SCK31/TMIF (io), H5 PA2 (io), H6 P51/~{WKP1} (io), H7 P52/~{WKP2} (io), H8 P57/~{WKP7} (io), H9 P65 (io), H10 P63 (io), J1 P41/RXD31/IRRXD/TMOFL (io), J4 PA0 (io), J5 P50/~{WKP0} (io), J6 PA3 (io), J7 P54/~{WKP4} (io), J8 P55/~{WKP5} (io), J9 P64 (io), J10 P62 (io), K1 ~{NMI} (in), K5 PA1 (io), K6 P53/~{WKP3} (io), K7 P56/~{WKP6} (io), K8 P61 (io), K9 P60 (io)
part B pins: A1 NC, A10 NC, B6 AVCC (power), C5 VSS/AVSS (power), D4 NC, F3 VSS (power), G1 NC, H4 VSS (power), J2 NC (power), J3 VSS (power), K2 VCC (power), K3 NC (power), K4 VSS (power), K10 NC

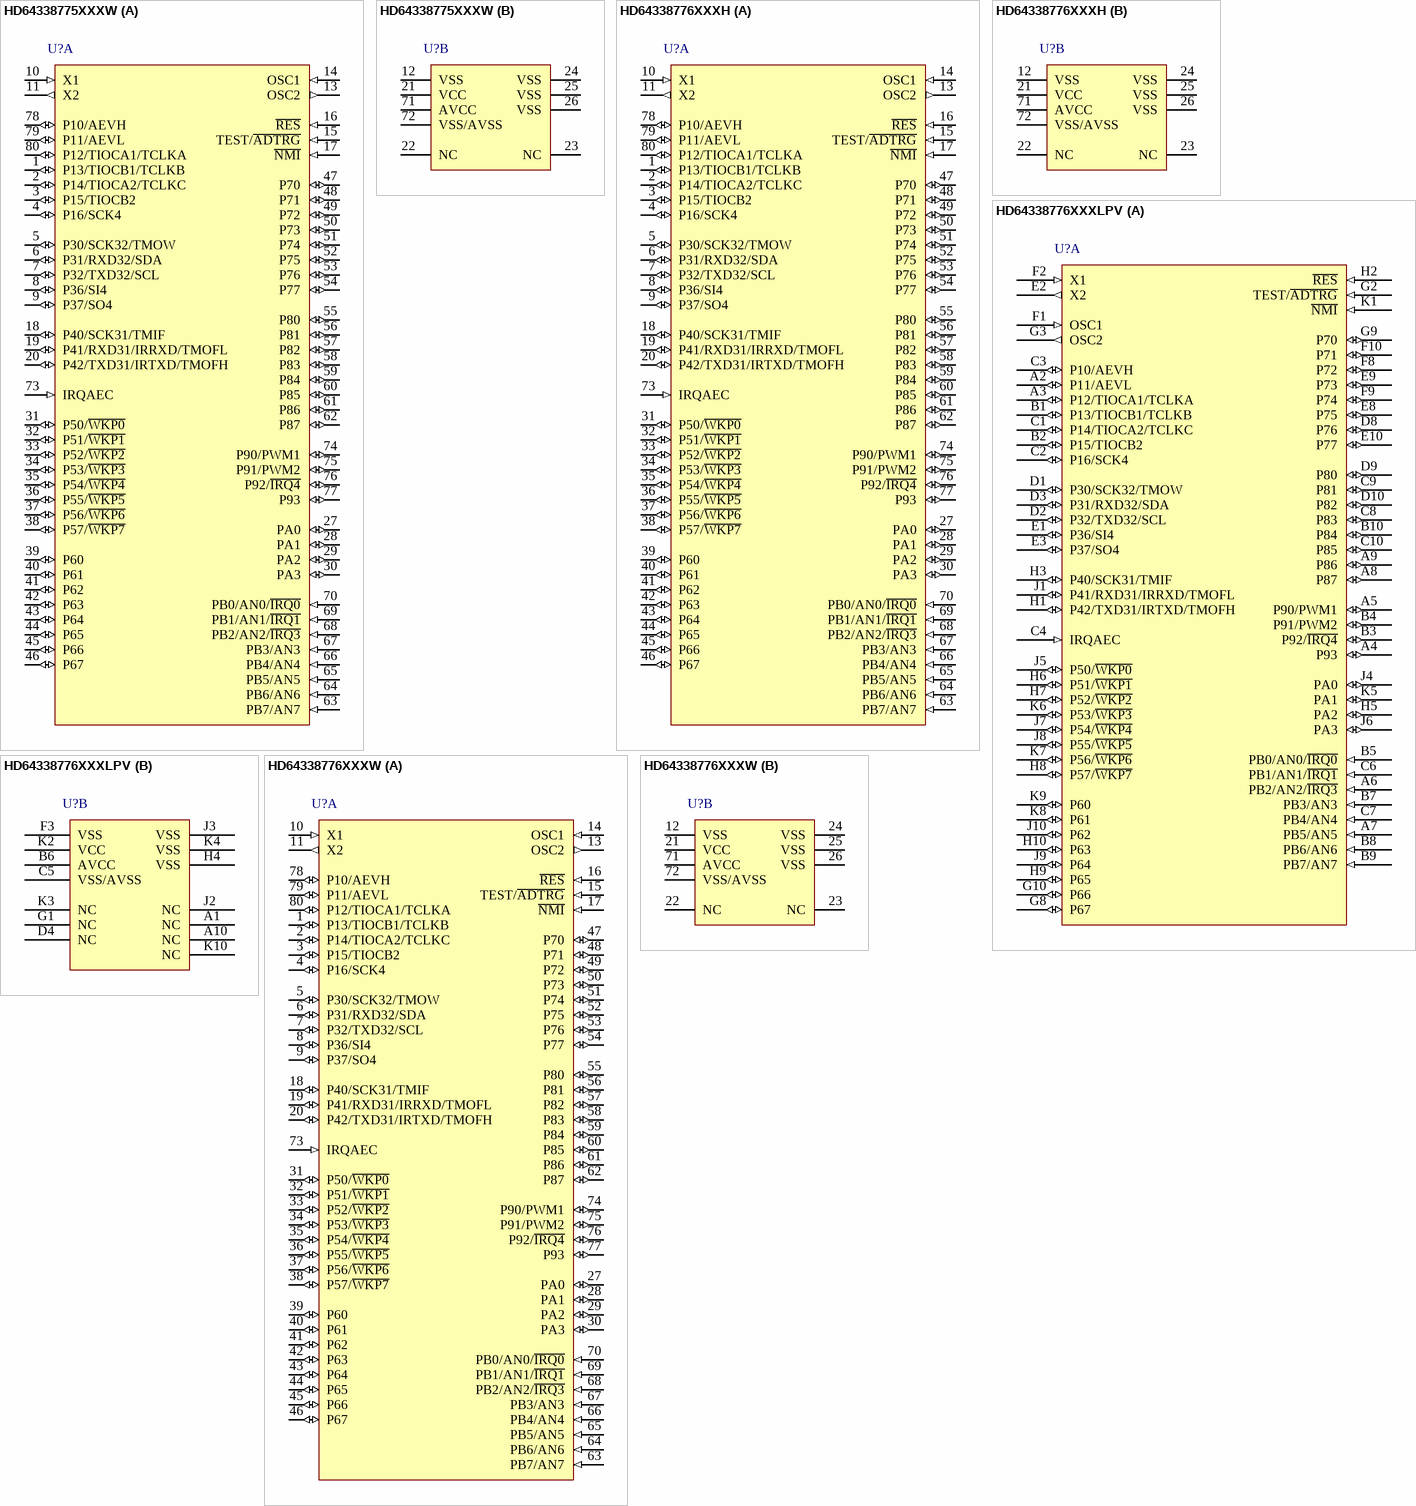
[diagram p87: symbols HD64338775XXXW to HD64338776XXXW]

## HD64338775XXXW
designator U?
H8 Family 32/16-bit CISC, H8/300H Super Low Power, 40K ROM, 2K RAM, 4.2MHz, 1.8 to 3.6V, 80-Pin QFP; Published: 28-Aug-2009; DatasheetVersion: Rev.1.00, Dec-2006; PackageVersion: Sep-2005; PackageReference: PTQP0080KC-A; Publisher: Altium Limited; PackageDescription: 80-Pin Plastic Thin Quad Flat Pack, 12 x 12 x 1.0 mm Body, 0.5 mm Pitch; Code_JEITA: P-TQFP80-12x12-0.50; ComponentLink1Description: Manufacturer Link; ComponentLink1URL: http://sg.renesas.com/fmwk.jsp?cnt=h8_family_landing.jsp&fp=/products/mpumcu/h8_family/; ComponentLink2Description: Datasheet; ComponentLink2URL: http://documentation.renesas.com/eng/products/mpumcu/rej09b0348_h838776hm.pdf; ComponentLink3Description: Packaging Specification; ComponentLink3URL: http://sg.renesas.com/media/products/common_info/package/pdf/ic/code/ptqp0080kc_a.pdf
footprint PTQP0080KC-A_N (Thin QFP, 80-Leads, Body 12x12mm, Pitch 0.5mm, IPC Medium Density)
footprint PTQP0080KC-A_L (Thin QFP, 80-Leads, Body 12x12mm, Pitch 0.5mm, IPC High Density)
footprint PTQP0080KC-A_M (Thin QFP, 80-Leads, Body 12x12mm, Pitch 0.5mm, IPC Low Density)
part A pins: 1 P13/TIOCB1/TCLKB (io), 2 P14/TIOCA2/TCLKC (io), 3 P15/TIOCB2 (io), 4 P16/SCK4 (io), 5 P30/SCK32/TMOW (io), 6 P31/RXD32/SDA (io), 7 P32/TXD32/SCL (io), 8 P36/SI4 (io), 9 P37/SO4 (io), 10 X1 (in), 11 X2 (out), 13 OSC2 (out), 14 OSC1 (in), 15 TEST/~{ADTRG} (in), 16 ~{RES} (in), 17 ~{NMI} (in), 18 P40/SCK31/TMIF (io), 19 P41/RXD31/IRRXD/TMOFL (io), 20 P42/TXD31/IRTXD/TMOFH (io), 27 PA0 (io), 28 PA1 (io), 29 PA2 (io), 30 PA3 (io), 31 P50/~{WKP0} (io), 32 P51/~{WKP1} (io), 33 P52/~{WKP2} (io), 34 P53/~{WKP3} (io), 35 P54/~{WKP4} (io), 36 P55/~{WKP5} (io), 37 P56/~{WKP6} (io), 38 P57/~{WKP7} (io), 39 P60 (io), 40 P61 (io), 41 P62 (io), 42 P63 (io), 43 P64 (io), 44 P65 (io), 45 P66 (io), 46 P67 (io), 47 P70 (io), 48 P71 (io), 49 P72 (io), 50 P73 (io), 51 P74 (io), 52 P75 (io), 53 P76 (io), 54 P77 (io), 55 P80 (io), 56 P81 (io), 57 P82 (io), 58 P83 (io), 59 P84 (io), 60 P85 (io), 61 P86 (io), 62 P87 (io), 63 PB7/AN7 (in), 64 PB6/AN6 (in), 65 PB5/AN5 (in), 66 PB4/AN4 (in), 67 PB3/AN3 (in), 68 PB2/AN2/~{IRQ3} (in), 69 PB1/AN1/~{IRQ1} (in), 70 PB0/AN0/~{IRQ0} (in), 73 IRQAEC (in), 74 P90/PWM1 (io), 75 P91/PWM2 (io), 76 P92/~{IRQ4} (io), 77 P93 (io), 78 P10/AEVH (io), 79 P11/AEVL (io), 80 P12/TIOCA1/TCLKA (io)
part B pins: 12 VSS (power), 21 VCC (power), 22 NC (power), 23 NC (power), 24 VSS (power), 25 VSS (power), 26 VSS (power), 71 AVCC (power), 72 VSS/AVSS (power)

## HD64338776XXXH
designator U?
H8 Family 32/16-bit CISC, H8/300H Super Low Power, 48K ROM, 2K RAM, 4.2MHz, 1.8 to 3.6V, 80-Pin QFP; Published: 28-Aug-2009; DatasheetVersion: Rev.1.00, Dec-2006; PackageVersion: Sep-2005; PackageReference: PRQP0080JB-A; Publisher: Altium Limited; PackageDescription: 80-Pin Plastic Quad Flat Pack, 14 x 14 x 2.7 mm Body, 0.65 mm Pitch; Code_JEITA: P-QFP80-14x14-0.65; Code_IPC: QFP65P1720X1720-80; ComponentLink1Description: Manufacturer Link; ComponentLink1URL: http://sg.renesas.com/fmwk.jsp?cnt=h8_family_landing.jsp&fp=/products/mpumcu/h8_family/; ComponentLink2Description: Datasheet; ComponentLink2URL: http://documentation.renesas.com/eng/products/mpumcu/rej09b0348_h838776hm.pdf; ComponentLink3Description: Packaging Specification; ComponentLink3URL: http://sg.renesas.com/media/products/common_info/package/pdf/ic/code/prqp0080jb_a.pdf
footprint PRQP0080JB-A_N (QFP, 80-Leads, Body 14x14mm, Pitch 0.65mm, IPC Medium Density)
footprint PRQP0080JB-A_L (QFP, 80-Leads, Body 14x14mm, Pitch 0.65mm, IPC High Density)
footprint PRQP0080JB-A_M (QFP, 80-Leads, Body 14x14mm, Pitch 0.65mm, IPC Low Density)
part A pins: 1 P13/TIOCB1/TCLKB (io), 2 P14/TIOCA2/TCLKC (io), 3 P15/TIOCB2 (io), 4 P16/SCK4 (io), 5 P30/SCK32/TMOW (io), 6 P31/RXD32/SDA (io), 7 P32/TXD32/SCL (io), 8 P36/SI4 (io), 9 P37/SO4 (io), 10 X1 (in), 11 X2 (out), 13 OSC2 (out), 14 OSC1 (in), 15 TEST/~{ADTRG} (in), 16 ~{RES} (in), 17 ~{NMI} (in), 18 P40/SCK31/TMIF (io), 19 P41/RXD31/IRRXD/TMOFL (io), 20 P42/TXD31/IRTXD/TMOFH (io), 27 PA0 (io), 28 PA1 (io), 29 PA2 (io), 30 PA3 (io), 31 P50/~{WKP0} (io), 32 P51/~{WKP1} (io), 33 P52/~{WKP2} (io), 34 P53/~{WKP3} (io), 35 P54/~{WKP4} (io), 36 P55/~{WKP5} (io), 37 P56/~{WKP6} (io), 38 P57/~{WKP7} (io), 39 P60 (io), 40 P61 (io), 41 P62 (io), 42 P63 (io), 43 P64 (io), 44 P65 (io), 45 P66 (io), 46 P67 (io), 47 P70 (io), 48 P71 (io), 49 P72 (io), 50 P73 (io), 51 P74 (io), 52 P75 (io), 53 P76 (io), 54 P77 (io), 55 P80 (io), 56 P81 (io), 57 P82 (io), 58 P83 (io), 59 P84 (io), 60 P85 (io), 61 P86 (io), 62 P87 (io), 63 PB7/AN7 (in), 64 PB6/AN6 (in), 65 PB5/AN5 (in), 66 PB4/AN4 (in), 67 PB3/AN3 (in), 68 PB2/AN2/~{IRQ3} (in), 69 PB1/AN1/~{IRQ1} (in), 70 PB0/AN0/~{IRQ0} (in), 73 IRQAEC (in), 74 P90/PWM1 (io), 75 P91/PWM2 (io), 76 P92/~{IRQ4} (io), 77 P93 (io), 78 P10/AEVH (io), 79 P11/AEVL (io), 80 P12/TIOCA1/TCLKA (io)
part B pins: 12 VSS (power), 21 VCC (power), 22 NC (power), 23 NC (power), 24 VSS (power), 25 VSS (power), 26 VSS (power), 71 AVCC (power), 72 VSS/AVSS (power)

## HD64338776XXXLPV
designator U?
H8 Family 32/16-bit CISC, H8/300H Super Low Power, 48K ROM, 2K RAM, 4.2MHz, 1.8 to 3.6V, 85-Ball BGA; Published: 28-Aug-2009; DatasheetVersion: Rev.1.00, Dec-2006; PackageVersion: Sep-2005; PackageReference: PTLG0085JA-A; Publisher: Altium Limited; PackageDescription: 85-Ball Plastic Thin Fine-Pitch BGA, 7 x 7 mm Body, 0.65 mm Pitch; Code_JEITA: P-TFLGA85-7x7-0.65; ComponentLink1Description: Manufacturer Link; ComponentLink1URL: http://sg.renesas.com/fmwk.jsp?cnt=h8_family_landing.jsp&fp=/products/mpumcu/h8_family/; ComponentLink2Description: Datasheet; ComponentLink2URL: http://documentation.renesas.com/eng/products/mpumcu/rej09b0348_h838776hm.pdf; ComponentLink3Description: Packaging Specification; ComponentLink3URL: http://sg.renesas.com/media/products/common_info/package/pdf/ic/code/ptlg0085ja_a.pdf
footprint PTLG0085JA-A (BGA, 85-Leads, Body 7x7mm, Pitch 0.65mm)
part A pins: A2 P11/AEVL (io), A3 P12/TIOCA1/TCLKA (io), A4 P93 (io), A5 P90/PWM1 (io), A6 PB2/AN2/~{IRQ3} (in), A7 PB5/AN5 (in), A8 P87 (io), A9 P86 (io), B1 P13/TIOCB1/TCLKB (io), B2 P15/TIOCB2 (io), B3 P92/~{IRQ4} (io), B4 P91/PWM2 (io), B5 PB0/AN0/~{IRQ0} (in), B7 PB3/AN3 (in), B8 PB6/AN6 (in), B9 PB7/AN7 (in), B10 P84 (io), C1 P14/TIOCA2/TCLKC (io), C2 P16/SCK4 (io), C3 P10/AEVH (io), C4 IRQAEC (in), C6 PB1/AN1/~{IRQ1} (in), C7 PB4/AN4 (in), C8 P83 (io), C9 P81 (io), C10 P85 (io), D1 P30/SCK32/TMOW (io), D2 P32/TXD32/SCL (io), D3 P31/RXD32/SDA (io), D8 P76 (io), D9 P80 (io), D10 P82 (io), E1 P36/SI4 (io), E2 X2 (out), E3 P37/SO4 (io), E8 P75 (io), E9 P73 (io), E10 P77 (io), F1 OSC1 (in), F2 X1 (in), F8 P72 (io), F9 P74 (io), F10 P71 (io), G2 TEST/~{ADTRG} (in), G3 OSC2 (out), G8 P67 (io), G9 P70 (io), G10 P66 (io), H1 P42/TXD31/IRTXD/TMOFH (io), H2 ~{RES} (in), H3 P40/SCK31/TMIF (io), H5 PA2 (io), H6 P51/~{WKP1} (io), H7 P52/~{WKP2} (io), H8 P57/~{WKP7} (io), H9 P65 (io), H10 P63 (io), J1 P41/RXD31/IRRXD/TMOFL (io), J4 PA0 (io), J5 P50/~{WKP0} (io), J6 PA3 (io), J7 P54/~{WKP4} (io), J8 P55/~{WKP5} (io), J9 P64 (io), J10 P62 (io), K1 ~{NMI} (in), K5 PA1 (io), K6 P53/~{WKP3} (io), K7 P56/~{WKP6} (io), K8 P61 (io), K9 P60 (io)
part B pins: A1 NC, A10 NC, B6 AVCC (power), C5 VSS/AVSS (power), D4 NC, F3 VSS (power), G1 NC, H4 VSS (power), J2 NC (power), J3 VSS (power), K2 VCC (power), K3 NC (power), K4 VSS (power), K10 NC

## HD64338776XXXW
designator U?
H8 Family 32/16-bit CISC, H8/300H Super Low Power, 48K ROM, 2K RAM, 4.2MHz, 1.8 to 3.6V, 80-Pin QFP; Published: 28-Aug-2009; DatasheetVersion: Rev.1.00, Dec-2006; PackageVersion: Sep-2005; PackageReference: PTQP0080KC-A; Publisher: Altium Limited; PackageDescription: 80-Pin Plastic Thin Quad Flat Pack, 12 x 12 x 1.0 mm Body, 0.5 mm Pitch; Code_JEITA: P-TQFP80-12x12-0.50; ComponentLink1Description: Manufacturer Link; ComponentLink1URL: http://sg.renesas.com/fmwk.jsp?cnt=h8_family_landing.jsp&fp=/products/mpumcu/h8_family/; ComponentLink2Description: Datasheet; ComponentLink2URL: http://documentation.renesas.com/eng/products/mpumcu/rej09b0348_h838776hm.pdf; ComponentLink3Description: Packaging Specification; ComponentLink3URL: http://sg.renesas.com/media/products/common_info/package/pdf/ic/code/ptqp0080kc_a.pdf
footprint PTQP0080KC-A_N (Thin QFP, 80-Leads, Body 12x12mm, Pitch 0.5mm, IPC Medium Density)
footprint PTQP0080KC-A_L (Thin QFP, 80-Leads, Body 12x12mm, Pitch 0.5mm, IPC High Density)
footprint PTQP0080KC-A_M (Thin QFP, 80-Leads, Body 12x12mm, Pitch 0.5mm, IPC Low Density)
part A pins: 1 P13/TIOCB1/TCLKB (io), 2 P14/TIOCA2/TCLKC (io), 3 P15/TIOCB2 (io), 4 P16/SCK4 (io), 5 P30/SCK32/TMOW (io), 6 P31/RXD32/SDA (io), 7 P32/TXD32/SCL (io), 8 P36/SI4 (io), 9 P37/SO4 (io), 10 X1 (in), 11 X2 (out), 13 OSC2 (out), 14 OSC1 (in), 15 TEST/~{ADTRG} (in), 16 ~{RES} (in), 17 ~{NMI} (in), 18 P40/SCK31/TMIF (io), 19 P41/RXD31/IRRXD/TMOFL (io), 20 P42/TXD31/IRTXD/TMOFH (io), 27 PA0 (io), 28 PA1 (io), 29 PA2 (io), 30 PA3 (io), 31 P50/~{WKP0} (io), 32 P51/~{WKP1} (io), 33 P52/~{WKP2} (io), 34 P53/~{WKP3} (io), 35 P54/~{WKP4} (io), 36 P55/~{WKP5} (io), 37 P56/~{WKP6} (io), 38 P57/~{WKP7} (io), 39 P60 (io), 40 P61 (io), 41 P62 (io), 42 P63 (io), 43 P64 (io), 44 P65 (io), 45 P66 (io), 46 P67 (io), 47 P70 (io), 48 P71 (io), 49 P72 (io), 50 P73 (io), 51 P74 (io), 52 P75 (io), 53 P76 (io), 54 P77 (io), 55 P80 (io), 56 P81 (io), 57 P82 (io), 58 P83 (io), 59 P84 (io), 60 P85 (io), 61 P86 (io), 62 P87 (io), 63 PB7/AN7 (in), 64 PB6/AN6 (in), 65 PB5/AN5 (in), 66 PB4/AN4 (in), 67 PB3/AN3 (in), 68 PB2/AN2/~{IRQ3} (in), 69 PB1/AN1/~{IRQ1} (in), 70 PB0/AN0/~{IRQ0} (in), 73 IRQAEC (in), 74 P90/PWM1 (io), 75 P91/PWM2 (io), 76 P92/~{IRQ4} (io), 77 P93 (io), 78 P10/AEVH (io), 79 P11/AEVL (io), 80 P12/TIOCA1/TCLKA (io)
part B pins: 12 VSS (power), 21 VCC (power), 22 NC (power), 23 NC (power), 24 VSS (power), 25 VSS (power), 26 VSS (power), 71 AVCC (power), 72 VSS/AVSS (power)

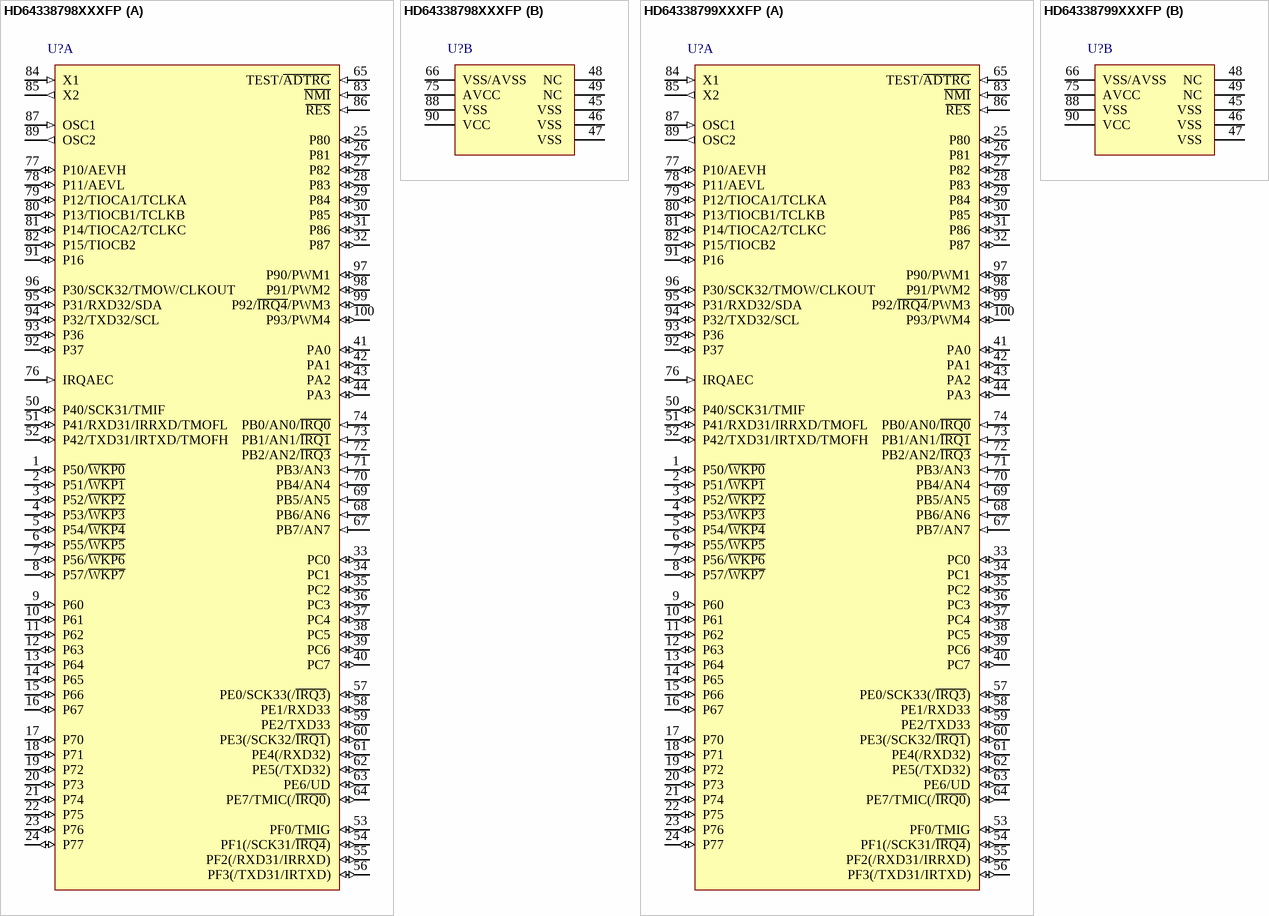
[diagram p88: symbols HD64338798XXXFP to HD64338799XXXFP]

## HD64338798XXXFP
designator U?
H8 Family 32/16-bit CISC, H8/300H Super Low Power, 96K ROM, 2K RAM, 4.2MHz, 1.8 to 3.6V, 100-Pin QFP; Published: 28-Aug-2009; DatasheetVersion: Rev.1.00, Jul-2007; PackageVersion: Sep-2005; PackageReference: PLQP0100KB-A; Publisher: Altium Limited; PackageDescription: 100-Pin Plastic Low Profile QFP, 14 x 14 x 1.4 mm Body, 0.5 mm Pitch; Code_JEITA: P-LQFP100-14x14-0.50; Code_IPC: SQFP50P1600X1600-100; ComponentLink1Description: Manufacturer Link; ComponentLink1URL: http://sg.renesas.com/fmwk.jsp?cnt=h8_family_landing.jsp&fp=/products/mpumcu/h8_family/; ComponentLink2Description: Datasheet; ComponentLink2URL: http://documentation.renesas.com/eng/products/mpumcu/rej09b0380_h838799hm.pdf; ComponentLink3Description: Packaging Specification; ComponentLink3URL: http://sg.renesas.com/media/products/common_info/package/pdf/ic/code/plqp0100kb_a.pdf
footprint PLQP0100KB-A_N (Shrink QFP, 100-Leads, Body 14x14mm, Pitch 0.5mm, IPC Medium Density)
footprint PLQP0100KB-A_L (Shrink QFP, 100-Leads, Body 14x14mm, Pitch 0.5mm, IPC High Density)
footprint PLQP0100KB-A_M (Shrink QFP, 100-Leads, Body 14x14mm, Pitch 0.5mm, IPC Low Density)
part A pins: 1 P50/~{WKP0} (io), 2 P51/~{WKP1} (io), 3 P52/~{WKP2} (io), 4 P53/~{WKP3} (io), 5 P54/~{WKP4} (io), 6 P55/~{WKP5} (io), 7 P56/~{WKP6} (io), 8 P57/~{WKP7} (io), 9 P60 (io), 10 P61 (io), 11 P62 (io), 12 P63 (io), 13 P64 (io), 14 P65 (io), 15 P66 (io), 16 P67 (io), 17 P70 (io), 18 P71 (io), 19 P72 (io), 20 P73 (io), 21 P74 (io), 22 P75 (io), 23 P76 (io), 24 P77 (io), 25 P80 (io), 26 P81 (io), 27 P82 (io), 28 P83 (io), 29 P84 (io), 30 P85 (io), 31 P86 (io), 32 P87 (io), 33 PC0 (io), 34 PC1 (io), 35 PC2 (io), 36 PC3 (io), 37 PC4 (io), 38 PC5 (io), 39 PC6 (io), 40 PC7 (io), 41 PA0 (io), 42 PA1 (io), 43 PA2 (io), 44 PA3 (io), 50 P40/SCK31/TMIF (io), 51 P41/RXD31/IRRXD/TMOFL (io), 52 P42/TXD31/IRTXD/TMOFH (io), 53 PF0/TMIG (io), 54 PF1(/SCK31/~{IRQ4}) (io), 55 PF2(/RXD31/IRRXD) (io), 56 PF3(/TXD31/IRTXD) (io), 57 PE0/SCK33(/~{IRQ3}) (io), 58 PE1/RXD33 (io), 59 PE2/TXD33 (io), 60 PE3(/SCK32/~{IRQ1}) (io), 61 PE4(/RXD32) (io), 62 PE5(/TXD32) (io), 63 PE6/UD (io), 64 PE7/TMIC(/~{IRQ0}) (io), 65 TEST/~{ADTRG} (in), 67 PB7/AN7 (in), 68 PB6/AN6 (in), 69 PB5/AN5 (in), 70 PB4/AN4 (in), 71 PB3/AN3 (in), 72 PB2/AN2/~{IRQ3} (in), 73 PB1/AN1/~{IRQ1} (in), 74 PB0/AN0/~{IRQ0} (in), 76 IRQAEC (in), 77 P10/AEVH (io), 78 P11/AEVL (io), 79 P12/TIOCA1/TCLKA (io), 80 P13/TIOCB1/TCLKB (io), 81 P14/TIOCA2/TCLKC (io), 82 P15/TIOCB2 (io), 83 ~{NMI} (in), 84 X1 (in), 85 X2 (out), 86 ~{RES} (in), 87 OSC1 (in), 89 OSC2 (out), 91 P16 (io), 92 P37 (io), 93 P36 (io), 94 P32/TXD32/SCL (io), 95 P31/RXD32/SDA (io), 96 P30/SCK32/TMOW/CLKOUT (io), 97 P90/PWM1 (io), 98 P91/PWM2 (io), 99 P92/~{IRQ4}/PWM3 (io), 100 P93/PWM4 (io)
part B pins: 45 VSS  (power), 46 VSS  (power), 47 VSS  (power), 48 NC  (power), 49 NC  (power), 66 VSS/AVSS (power), 75 AVCC (power), 88 VSS (power), 90 VCC (power)

## HD64338799XXXFP
designator U?
H8 Family 32/16-bit CISC, H8/300H Super Low Power, 128K ROM, 4K RAM, 4.2MHz, 1.8 to 3.6V, 100-Pin QFP; Published: 28-Aug-2009; DatasheetVersion: Rev.1.00, Jul-2007; PackageVersion: Sep-2005; PackageReference: PLQP0100KB-A; Publisher: Altium Limited; PackageDescription: 100-Pin Plastic Low Profile QFP, 14 x 14 x 1.4 mm Body, 0.5 mm Pitch; Code_JEITA: P-LQFP100-14x14-0.50; Code_IPC: SQFP50P1600X1600-100; ComponentLink1Description: Manufacturer Link; ComponentLink1URL: http://sg.renesas.com/fmwk.jsp?cnt=h8_family_landing.jsp&fp=/products/mpumcu/h8_family/; ComponentLink2Description: Datasheet; ComponentLink2URL: http://documentation.renesas.com/eng/products/mpumcu/rej09b0380_h838799hm.pdf; ComponentLink3Description: Packaging Specification; ComponentLink3URL: http://sg.renesas.com/media/products/common_info/package/pdf/ic/code/plqp0100kb_a.pdf
footprint PLQP0100KB-A_N (Shrink QFP, 100-Leads, Body 14x14mm, Pitch 0.5mm, IPC Medium Density)
footprint PLQP0100KB-A_L (Shrink QFP, 100-Leads, Body 14x14mm, Pitch 0.5mm, IPC High Density)
footprint PLQP0100KB-A_M (Shrink QFP, 100-Leads, Body 14x14mm, Pitch 0.5mm, IPC Low Density)
part A pins: 1 P50/~{WKP0} (io), 2 P51/~{WKP1} (io), 3 P52/~{WKP2} (io), 4 P53/~{WKP3} (io), 5 P54/~{WKP4} (io), 6 P55/~{WKP5} (io), 7 P56/~{WKP6} (io), 8 P57/~{WKP7} (io), 9 P60 (io), 10 P61 (io), 11 P62 (io), 12 P63 (io), 13 P64 (io), 14 P65 (io), 15 P66 (io), 16 P67 (io), 17 P70 (io), 18 P71 (io), 19 P72 (io), 20 P73 (io), 21 P74 (io), 22 P75 (io), 23 P76 (io), 24 P77 (io), 25 P80 (io), 26 P81 (io), 27 P82 (io), 28 P83 (io), 29 P84 (io), 30 P85 (io), 31 P86 (io), 32 P87 (io), 33 PC0 (io), 34 PC1 (io), 35 PC2 (io), 36 PC3 (io), 37 PC4 (io), 38 PC5 (io), 39 PC6 (io), 40 PC7 (io), 41 PA0 (io), 42 PA1 (io), 43 PA2 (io), 44 PA3 (io), 50 P40/SCK31/TMIF (io), 51 P41/RXD31/IRRXD/TMOFL (io), 52 P42/TXD31/IRTXD/TMOFH (io), 53 PF0/TMIG (io), 54 PF1(/SCK31/~{IRQ4}) (io), 55 PF2(/RXD31/IRRXD) (io), 56 PF3(/TXD31/IRTXD) (io), 57 PE0/SCK33(/~{IRQ3}) (io), 58 PE1/RXD33 (io), 59 PE2/TXD33 (io), 60 PE3(/SCK32/~{IRQ1}) (io), 61 PE4(/RXD32) (io), 62 PE5(/TXD32) (io), 63 PE6/UD (io), 64 PE7/TMIC(/~{IRQ0}) (io), 65 TEST/~{ADTRG} (in), 67 PB7/AN7 (in), 68 PB6/AN6 (in), 69 PB5/AN5 (in), 70 PB4/AN4 (in), 71 PB3/AN3 (in), 72 PB2/AN2/~{IRQ3} (in), 73 PB1/AN1/~{IRQ1} (in), 74 PB0/AN0/~{IRQ0} (in), 76 IRQAEC (in), 77 P10/AEVH (io), 78 P11/AEVL (io), 79 P12/TIOCA1/TCLKA (io), 80 P13/TIOCB1/TCLKB (io), 81 P14/TIOCA2/TCLKC (io), 82 P15/TIOCB2 (io), 83 ~{NMI} (in), 84 X1 (in), 85 X2 (out), 86 ~{RES} (in), 87 OSC1 (in), 89 OSC2 (out), 91 P16 (io), 92 P37 (io), 93 P36 (io), 94 P32/TXD32/SCL (io), 95 P31/RXD32/SDA (io), 96 P30/SCK32/TMOW/CLKOUT (io), 97 P90/PWM1 (io), 98 P91/PWM2 (io), 99 P92/~{IRQ4}/PWM3 (io), 100 P93/PWM4 (io)
part B pins: 45 VSS  (power), 46 VSS  (power), 47 VSS  (power), 48 NC  (power), 49 NC  (power), 66 VSS/AVSS (power), 75 AVCC (power), 88 VSS (power), 90 VCC (power)